# Altium footprint library FPC1.0.PcbLib: 29 footprints (part 1 of 2)
Each footprint in its own frame and in the unit in brackets; x right, y up, seen from the top. Pads: shape width x height; smd on the part's side, far side on the other; paste and mask are expansions set on the pad; w line width, h text height; cw(c..) or ccw(c..) is an arc to the next point about the centre after c.
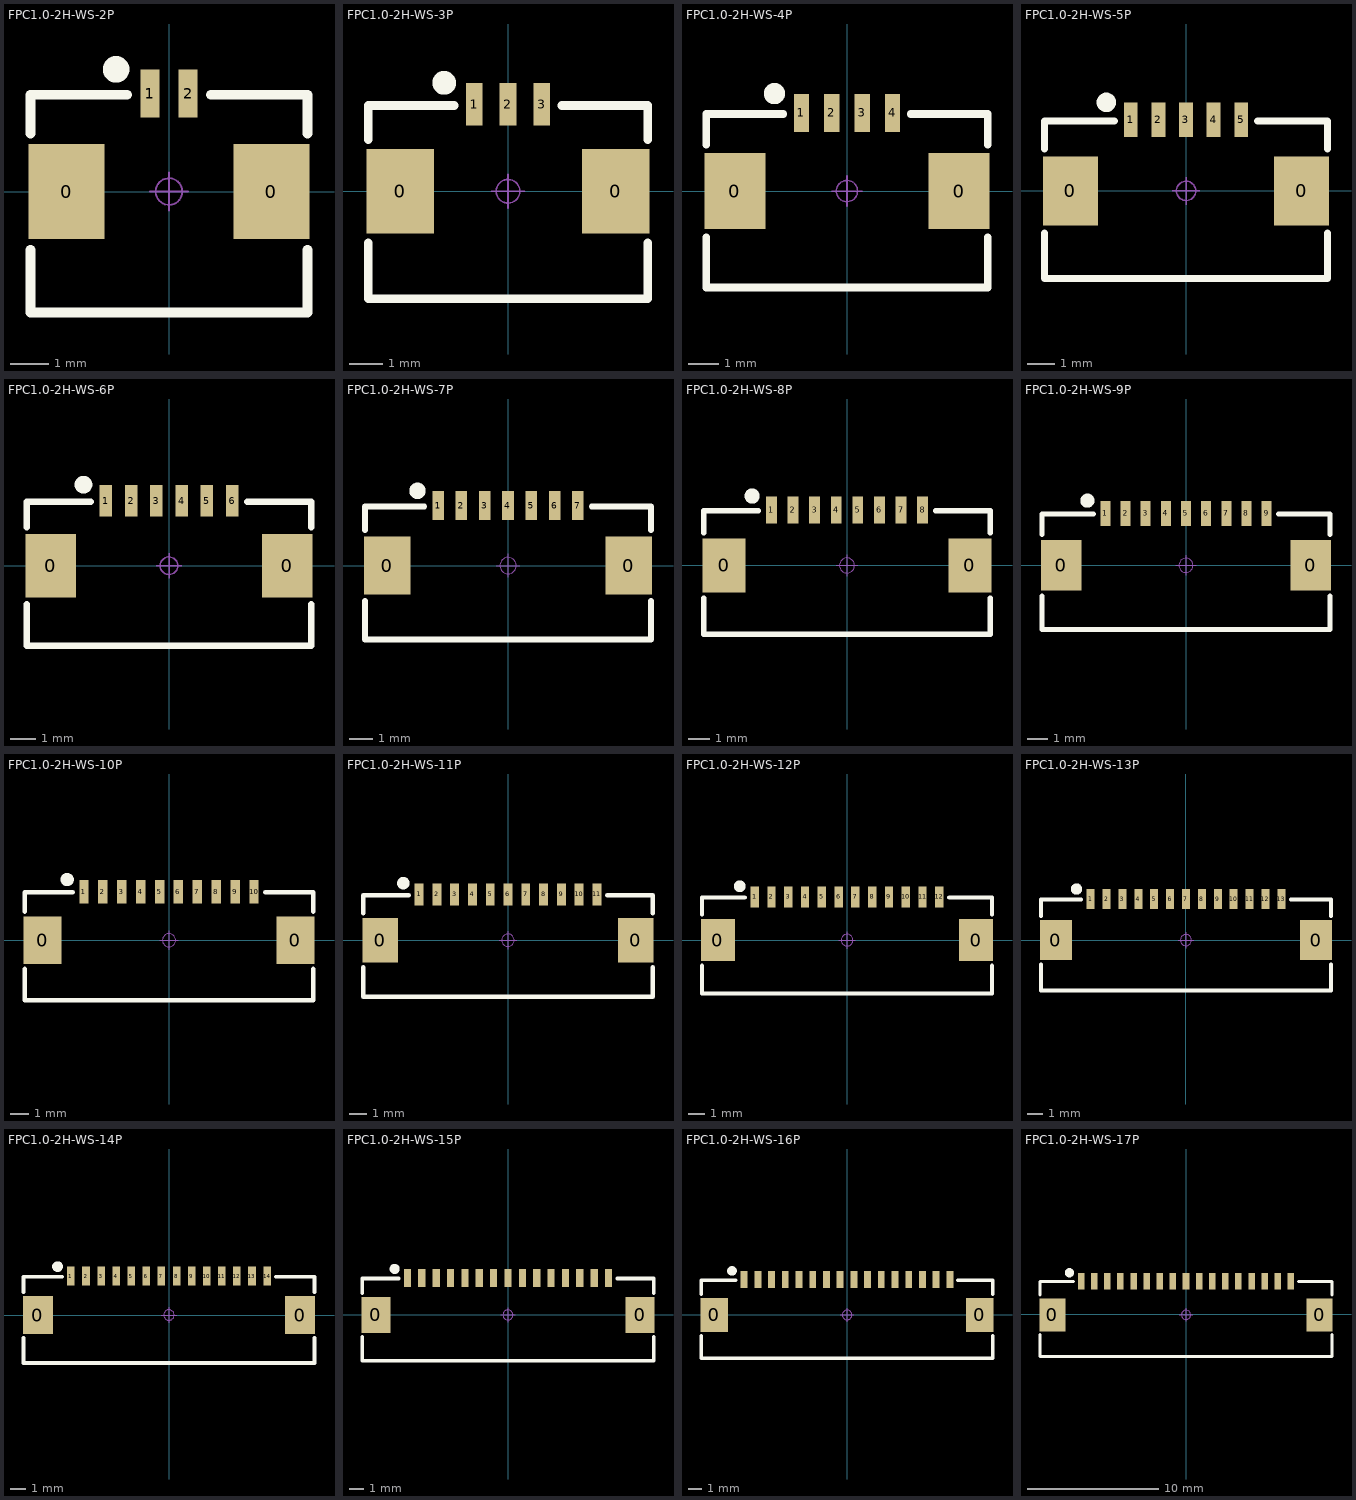
[diagram p0: the footprints below, top view; thin cyan lines are the x and y axes]

## FPC1.0-2H-WS-2P [mm] "翻盖FPC，脚距1mm，不含脚（长6.9mm，宽5.2mm，高1.96mm）"
pads (4):
  rect 2x2.5 smd: 0(-2.69,0) 0(2.69,0)
  rect 0.5x1.25 smd: 1(-0.5,2.575) 2(0.5,2.575)
Top Overlay:
  circle w0.5: c-1.389,3.21 r0.1
  lines w0.254: -3.636,-1.524 -3.636,-3.175 3.636,-3.175 3.636,-1.524 ; -3.636,1.524 -3.636,2.54 -1.096,2.54 ; 1.096,2.54 3.636,2.54 3.636,1.524
Mechanical 15:
  circle w0.05: c0,0 r0.35
  lines w0.05: -0.5,0 0.5,0 ; 0,-0.5 0,0.5
3D body "FPC1.0 2H-WS-2P.STEP": height 2, standoff -0.02, extent -3.45,-3.15 3.45,2.85

## FPC1.0-2H-WS-3P [mm] "翻盖FPC，脚距1mm，不含脚（长7.9mm，宽5.2mm，高1.96mm）"
pads (5):
  rect 2x2.5 smd: 0(-3.19,0) 0(3.19,0)
  rect 0.5x1.25 smd: 1(-1,2.575) 2(0,2.575) 3(1,2.575)
Top Overlay:
  circle w0.5: c-1.889,3.21 r0.1
  lines w0.254: -4.136,-1.524 -4.136,-3.175 4.136,-3.175 4.136,-1.524 ; -4.136,1.524 -4.136,2.54 -1.596,2.54 ; 1.596,2.54 4.136,2.54 4.136,1.524
Mechanical 15:
  circle w0.05: c0,0 r0.35
  lines w0.05: -0.5,0 0.5,0 ; 0,-0.5 0,0.5
3D body "FPC1.0 2H-WS-3P.STEP": height 2, standoff -0.02, extent -3.95,-3.15 3.95,2.85

## FPC1.0-2H-WS-4P [mm] "翻盖FPC，脚距1mm，不含脚（长8.9mm，宽5.2mm，高1.96mm）"
pads (6):
  rect 2x2.5 smd: 0(-3.69,0) 0(3.69,0)
  rect 0.5x1.25 smd: 1(-1.5,2.575) 2(-0.5,2.575) 3(0.5,2.575) 4(1.5,2.575)
Top Overlay:
  circle w0.5: c-2.389,3.21 r0.1
  lines w0.254: -4.636,-1.524 -4.636,-3.175 4.636,-3.175 4.636,-1.524 ; -4.636,1.524 -4.636,2.54 -2.096,2.54 ; 2.096,2.54 4.636,2.54 4.636,1.524
Mechanical 15:
  circle w0.05: c0,0 r0.35
  lines w0.05: -0.5,0 0.5,0 ; 0,-0.5 0,0.5
3D body "FPC1.0 2H-WS-4P.STEP": height 2, standoff -0.02, extent -4.45,-3.15 4.45,2.85

## FPC1.0-2H-WS-5P [mm] "翻盖FPC，脚距1mm，不含脚（长9.9mm，宽5.2mm，高1.96mm）"
pads (7):
  rect 2x2.5 smd: 0(-4.19,0) 0(4.19,0)
  rect 0.5x1.25 smd: 1(-2,2.575) 2(-1,2.575) 3(0,2.575) 4(1,2.575) 5(2,2.575)
Top Overlay:
  circle w0.5: c-2.889,3.21 r0.1
  lines w0.254: -5.136,-1.524 -5.136,-3.175 5.136,-3.175 5.136,-1.524 ; -5.136,1.524 -5.136,2.54 -2.596,2.54 ; 2.596,2.54 5.136,2.54 5.136,1.524
Mechanical 15:
  circle w0.05: c0,0 r0.35
  lines w0.05: -0.5,0 0.5,0 ; 0,-0.5 0,0.5
3D body "FPC1.0 2H-WS-5P.STEP": height 2, standoff -0.02, extent -4.95,-3.15 4.95,2.85

## FPC1.0-2H-WS-6P [mm] "翻盖FPC，脚距1mm，不含脚（长10.9mm，宽5.2mm，高1.96mm）"
pads (8):
  rect 2x2.5 smd: 0(-4.69,0) 0(4.69,0)
  rect 0.5x1.25 smd: 1(-2.5,2.575) 2(-1.5,2.575) 3(-0.5,2.575) 4(0.5,2.575) 5(1.5,2.575) 6(2.5,2.575)
Top Overlay:
  circle w0.5: c-3.389,3.21 r0.1
  lines w0.254: -5.636,-1.524 -5.636,-3.175 5.636,-3.175 5.636,-1.524 ; -5.636,1.524 -5.636,2.54 -3.096,2.54 ; 3.096,2.54 5.636,2.54 5.636,1.524
Mechanical 15:
  circle w0.05: c0,0 r0.35
  lines w0.05: -0.5,0 0.5,0 ; 0,-0.5 0,0.5
3D body "FPC1.0 2H-WS-6P.STEP": height 2, standoff -0.02, extent -5.45,-3.15 5.45,2.85

## FPC1.0-2H-WS-7P [mm] "翻盖FPC，脚距1mm，不含脚（长11.9mm，宽5.2mm，高1.96mm）"
pads (9):
  rect 2x2.5 smd: 0(-5.19,0) 0(5.19,0)
  rect 0.5x1.25 smd: 1(-3,2.575) 2(-2,2.575) 3(-1,2.575) 4(0,2.575) 5(1,2.575) 6(2,2.575) 7(3,2.575)
Top Overlay:
  circle w0.5: c-3.889,3.21 r0.1
  lines w0.254: -6.136,-1.524 -6.136,-3.175 6.136,-3.175 6.136,-1.524 ; -6.136,1.524 -6.136,2.54 -3.596,2.54 ; 3.596,2.54 6.136,2.54 6.136,1.524
Mechanical 15:
  circle w0.05: c0,0 r0.35
  lines w0.05: -0.5,0 0.5,0 ; 0,-0.5 0,0.5
3D body "FPC1.0 2H-WS-7P.STEP": height 2, standoff -0.02, extent -5.95,-3.15 5.95,2.85

## FPC1.0-2H-WS-8P [mm] "翻盖FPC，脚距1mm，不含脚（长12.9mm，宽5.2mm，高1.96mm）"
pads (10):
  rect 2x2.5 smd: 0(-5.69,0) 0(5.69,0)
  rect 0.5x1.25 smd: 1(-3.5,2.575) 2(-2.5,2.575) 3(-1.5,2.575) 4(-0.5,2.575) 5(0.5,2.575) 6(1.5,2.575) 7(2.5,2.575) 8(3.5,2.575)
Top Overlay:
  circle w0.5: c-4.389,3.21 r0.1
  lines w0.254: -6.636,-1.524 -6.636,-3.175 6.636,-3.175 6.636,-1.524 ; -6.636,1.524 -6.636,2.54 -4.096,2.54 ; 4.096,2.54 6.636,2.54 6.636,1.524
Mechanical 15:
  circle w0.05: c0,0 r0.35
  lines w0.05: -0.5,0 0.5,0 ; 0,-0.5 0,0.5
3D body "FPC1.0 2H-WS-8P.STEP": height 2, standoff -0.02, extent -6.45,-3.15 6.45,2.85

## FPC1.0-2H-WS-9P [mm] "翻盖FPC，脚距1mm，不含脚（长13.9mm，宽5.2mm，高1.96mm）"
pads (11):
  rect 2x2.5 smd: 0(-6.19,0) 0(6.19,0)
  rect 0.5x1.25 smd: 1(-4,2.575) 2(-3,2.575) 3(-2,2.575) 4(-1,2.575) 5(0,2.575) 6(1,2.575) 7(2,2.575) 8(3,2.575) 9(4,2.575)
Top Overlay:
  circle w0.5: c-4.889,3.21 r0.1
  lines w0.254: -7.136,-1.524 -7.136,-3.175 7.136,-3.175 7.136,-1.524 ; -7.136,1.524 -7.136,2.54 -4.596,2.54 ; 4.596,2.54 7.136,2.54 7.136,1.524
Mechanical 15:
  circle w0.05: c0,0 r0.35
  lines w0.05: -0.5,0 0.5,0 ; 0,-0.5 0,0.5
3D body "FPC1.0 2H-WS-9P.STEP": height 2, standoff -0.02, extent -6.95,-3.15 6.95,2.85

## FPC1.0-2H-WS-10P [mm] "翻盖FPC，脚距1mm，不含脚（长14.9mm，宽5.2mm，高1.96mm）"
pads (12):
  rect 2x2.5 smd: 0(-6.69,0) 0(6.69,0)
  rect 0.5x1.25 smd: 1(-4.5,2.575) 2(-3.5,2.575) 3(-2.5,2.575) 4(-1.5,2.575) 5(-0.5,2.575) 6(0.5,2.575) 7(1.5,2.575) 8(2.5,2.575) 9(3.5,2.575) 10(4.5,2.575)
Top Overlay:
  circle w0.5: c-5.389,3.21 r0.1
  lines w0.254: -7.636,-1.524 -7.636,-3.175 7.636,-3.175 7.636,-1.524 ; -7.636,1.524 -7.636,2.54 -5.096,2.54 ; 5.096,2.54 7.636,2.54 7.636,1.524
Mechanical 15:
  circle w0.05: c0,0 r0.35
  lines w0.05: -0.5,0 0.5,0 ; 0,-0.5 0,0.5
3D body "FPC1.0 2H-WS-10P.STEP": height 2, standoff -0.02, extent -7.45,-3.15 7.45,2.85

## FPC1.0-2H-WS-11P [mm] "翻盖FPC，脚距1mm，不含脚（长15.9mm，宽5.2mm，高1.96mm）"
pads (13):
  rect 2x2.5 smd: 0(-7.19,0) 0(7.19,0)
  rect 0.5x1.25 smd: 1(-5,2.575) 2(-4,2.575) 3(-3,2.575) 4(-2,2.575) 5(-1,2.575) 6(0,2.575) 7(1,2.575) 8(2,2.575) 9(3,2.575) 10(4,2.575) 11(5,2.575)
Top Overlay:
  circle w0.5: c-5.889,3.21 r0.1
  lines w0.254: -8.136,-1.524 -8.136,-3.175 8.136,-3.175 8.136,-1.524 ; -8.136,1.524 -8.136,2.54 -5.596,2.54 ; 5.596,2.54 8.136,2.54 8.136,1.524
Mechanical 15:
  circle w0.05: c0,0 r0.35
  lines w0.05: -0.5,0 0.5,0 ; 0,-0.5 0,0.5
3D body "FPC1.0 2H-WS-11P.STEP": height 2, standoff -0.02, extent -7.95,-3.15 7.95,2.85

## FPC1.0-2H-WS-12P [mm] "翻盖FPC，脚距1mm，不含脚（长16.9mm，宽5.2mm，高1.96mm）"
pads (14):
  rect 2x2.5 smd: 0(-7.69,0) 0(7.69,0)
  rect 0.5x1.25 smd: 1(-5.5,2.575) 2(-4.5,2.575) 3(-3.5,2.575) 4(-2.5,2.575) 5(-1.5,2.575) 6(-0.5,2.575) 7(0.5,2.575) 8(1.5,2.575) 9(2.5,2.575) 10(3.5,2.575) 11(4.5,2.575) 12(5.5,2.575)
Top Overlay:
  circle w0.5: c-6.389,3.21 r0.1
  lines w0.254: -8.636,-1.524 -8.636,-3.175 8.636,-3.175 8.636,-1.524 ; -8.636,1.524 -8.636,2.54 -6.096,2.54 ; 6.096,2.54 8.636,2.54 8.636,1.524
Mechanical 15:
  circle w0.05: c0,0 r0.35
  lines w0.05: -0.5,0 0.5,0 ; 0,-0.5 0,0.5
3D body "FPC1.0 2H-WS-12P.STEP": height 2, standoff -0.02, extent -8.45,-3.15 8.45,2.85

## FPC1.0-2H-WS-13P [mm] "翻盖FPC，脚距1mm，不含脚（长17.9mm，宽5.2mm，高1.96mm）"
pads (15):
  rect 2x2.5 smd: 0(-8.19,0) 0(8.19,0)
  rect 0.5x1.25 smd: 1(-6,2.575) 2(-5,2.575) 3(-4,2.575) 4(-3,2.575) 5(-2,2.575) 6(-1,2.575) 7(0,2.575) 8(1,2.575) 9(2,2.575) 10(3,2.575) 11(4,2.575) 12(5,2.575) 13(6,2.575)
Top Overlay:
  circle w0.5: c-6.889,3.21 r0.1
  lines w0.254: -9.136,-1.524 -9.136,-3.175 9.136,-3.175 9.136,-1.524 ; -9.136,1.524 -9.136,2.54 -6.596,2.54 ; 6.596,2.54 9.136,2.54 9.136,1.524
Mechanical 15:
  circle w0.05: c0,0 r0.35
  lines w0.05: -0.5,0 0.5,0 ; 0,-0.5 0,0.5
3D body "FPC1.0 2H-WS-13P.STEP": height 2, standoff -0.02, extent -8.95,-3.15 8.95,2.85

## FPC1.0-2H-WS-14P [mm] "翻盖FPC，脚距1mm，不含脚（长18.9mm，宽5.2mm，高1.96mm）"
pads (16):
  rect 2x2.5 smd: 0(-8.69,0) 0(8.69,0)
  rect 0.5x1.25 smd: 1(-6.5,2.575) 2(-5.5,2.575) 3(-4.5,2.575) 4(-3.5,2.575) 5(-2.5,2.575) 6(-1.5,2.575) 7(-0.5,2.575) 8(0.5,2.575) 9(1.5,2.575) 10(2.5,2.575) 11(3.5,2.575) 12(4.5,2.575) 13(5.5,2.575) 14(6.5,2.575)
Top Overlay:
  circle w0.5: c-7.389,3.21 r0.1
  lines w0.254: -9.636,-1.524 -9.636,-3.175 9.636,-3.175 9.636,-1.524 ; -9.636,1.524 -9.636,2.54 -7.096,2.54 ; 7.096,2.54 9.636,2.54 9.636,1.524
Mechanical 15:
  circle w0.05: c0,0 r0.35
  lines w0.05: -0.5,0 0.5,0 ; 0,-0.5 0,0.5
3D body "FPC1.0 2H-WS-14P.STEP": height 2, standoff -0.02, extent -9.45,-3.15 9.45,2.85

## FPC1.0-2H-WS-15P [mm] "翻盖FPC，脚距1mm，不含脚（长19.9mm，宽5.2mm，高1.96mm）"
pads (17):
  rect 2x2.5 smd: 0(-9.19,0) 0(9.19,0)
  rect 0.5x1.25 smd: 1(-7,2.575) 2(-6,2.575) 3(-5,2.575) 4(-4,2.575) 5(-3,2.575) 6(-2,2.575) 7(-1,2.575) 8(0,2.575) 9(1,2.575) 10(2,2.575) 11(3,2.575) 12(4,2.575) 13(5,2.575) 14(6,2.575) 15(7,2.575)
Top Overlay:
  circle w0.5: c-7.889,3.21 r0.1
  lines w0.254: -10.136,-1.524 -10.136,-3.175 10.136,-3.175 10.136,-1.524 ; -10.136,1.524 -10.136,2.54 -7.596,2.54 ; 7.596,2.54 10.136,2.54 10.136,1.524
Mechanical 15:
  circle w0.05: c0,0 r0.35
  lines w0.05: -0.5,0 0.5,0 ; 0,-0.5 0,0.5
3D body "FPC1.0 2H-WS-15P.STEP": height 2, standoff -0.02, extent -9.95,-3.15 9.95,2.85

## FPC1.0-2H-WS-16P [mm] "翻盖FPC，脚距1mm，不含脚（长20.9mm，宽5.2mm，高1.96mm）"
pads (18):
  rect 2x2.5 smd: 0(-9.69,0) 0(9.69,0)
  rect 0.5x1.25 smd: 1(-7.5,2.575) 2(-6.5,2.575) 3(-5.5,2.575) 4(-4.5,2.575) 5(-3.5,2.575) 6(-2.5,2.575) 7(-1.5,2.575) 8(-0.5,2.575) 9(0.5,2.575) 10(1.5,2.575) 11(2.5,2.575) 12(3.5,2.575) 13(4.5,2.575) 14(5.5,2.575) 15(6.5,2.575) 16(7.5,2.575)
Top Overlay:
  circle w0.5: c-8.389,3.21 r0.1
  lines w0.254: -10.636,-1.524 -10.636,-3.175 10.634,-3.175 10.634,-1.524 ; -10.636,1.524 -10.636,2.54 -8.096,2.54 ; 8.094,2.54 10.634,2.54 10.634,1.524
Mechanical 15:
  circle w0.05: c0,0 r0.35
  lines w0.05: -0.5,0 0.5,0 ; 0,-0.5 0,0.5
3D body "FPC1.0 2H-WS-16P.STEP": height 2, standoff -0.02, extent -10.45,-3.15 10.45,2.85

## FPC1.0-2H-WS-17P [mm] "翻盖FPC，脚距1mm，不含脚（长21.9mm，宽5.2mm，高1.96mm）"
pads (19):
  rect 2x2.5 smd: 0(-10.19,-0.04) 0(10.19,-0.04)
  rect 0.5x1.25 smd: 1(-8,2.535) 2(-7,2.535) 3(-6,2.535) 4(-5,2.535) 5(-4,2.535) 6(-3,2.535) 7(-2,2.535) 8(-1,2.535) 9(0,2.535) 10(1,2.535) 11(2,2.535) 12(3,2.535) 13(4,2.535) 14(5,2.535) 15(6,2.535) 16(7,2.535) 17(8,2.535)
Top Overlay:
  circle w0.5: c-8.889,3.17 r0.1
  lines w0.254: -11.136,-1.564 -11.136,-3.215 11.134,-3.215 11.134,-1.564 ; -11.136,1.484 -11.136,2.5 -8.596,2.5 ; 8.594,2.5 11.134,2.5 11.134,1.484
Mechanical 15:
  circle w0.05: c0,-0.04 r0.35
  lines w0.05: -0.5,-0.04 0.5,-0.04 ; 0,-0.54 0,0.46
3D body "FPC1.0 2H-WS-17P.STEP": height 2, standoff -0.02, extent -10.95,-3.19 10.95,2.81